# EAGLE library part MICRO_SD (library CONNECTORS)
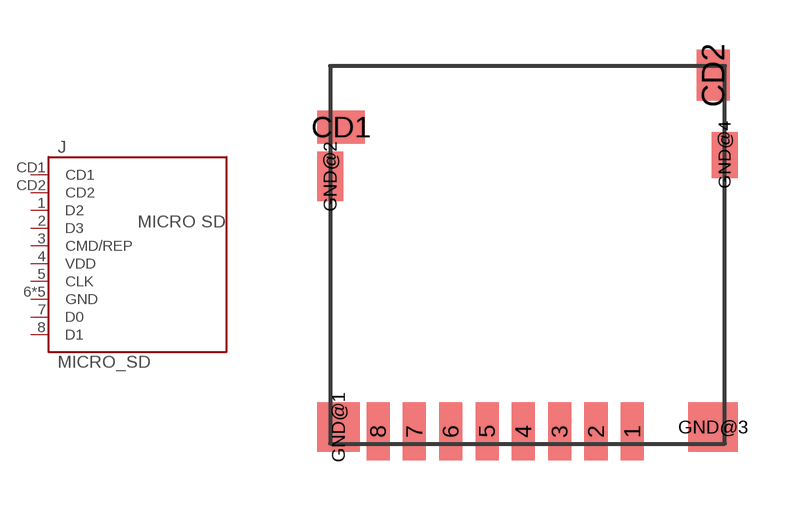
[diagram p3: symbol with the pads of MICRO_SD_AMP; footprint MICRO_SD_AMP]

Designator prefix J

## MICRO_SDAMP (MPN: 114-00841-68)  [MICRO_SD_AMP]
1  D2
2  D3
3  CMD/REP
4  VDD
5  CLK
6  GND
7  D0
8  D1
CD1  CD1
CD2  CD2
GND@1  GND
GND@2  GND
GND@3  GND
GND@4  GND

## Footprint MICRO_SD_AMP (pad centres in mm)
smd 0.7 x 1.75: 1 7.7,-0.125; 2 6.6,-0.125; 3 5.5,-0.125; 4 4.4,-0.125; 5 3.3,-0.125; 6 2.2,-0.125; 7 1.1,-0.125; 8 0,-0.125
smd 1.45 x 1: CD1 -1.125,9.1
smd 1 x 1.55: CD2 10.15,10.675
smd 1.3 x 1.5: GND@1 -1.2,0
smd 0.8 x 1.5: GND@2 -1.45,7.6
smd 1.5 x 1.5: GND@3 10.15,0
smd 0.8 x 1.4: GND@4 10.5,8.25